# EAGLE library part ATMEGA168PB-AUR (library ATMEGA168PB-AUR)
Avr, 16kb Flash, 512b Ee, 1kb Sram - 20 Mhz, TQFP, Ind Temp Green t&r/ Tqfp (a)
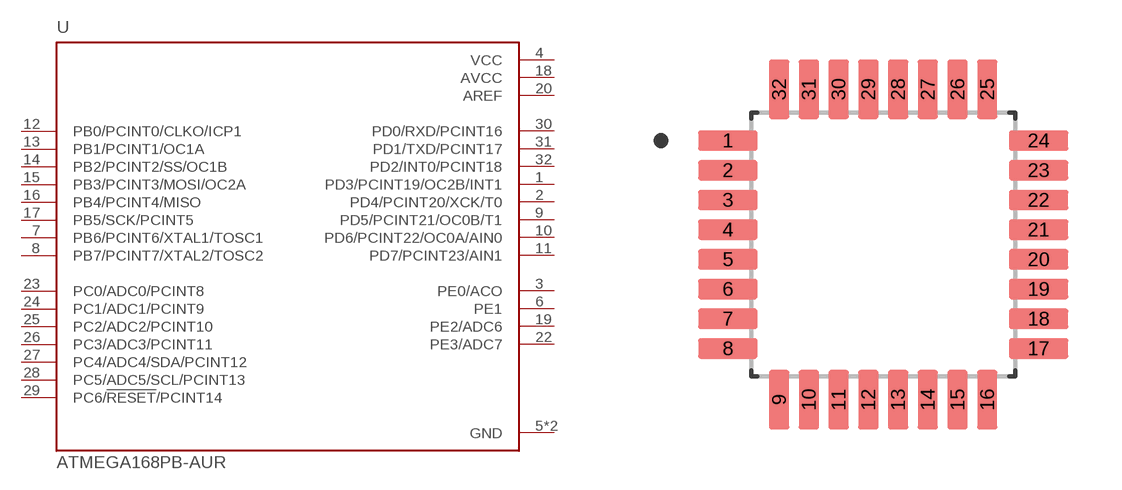
[diagram p0: symbol with the pads of QFP80P900X900X120-32N; footprint QFP80P900X900X120-32N]

Designator prefix U

## ATMEGA168PB-AUR (Availability: Unavailable; Description: Avr, 16kb Flash, 512b Ee, 1kb Sram - 20 Mhz, Tqfp, Ind Temp Green t&r/ Tqfp _a_; MF: Microchip; MP: ATMEGA168PB-AUR; Package: TQFP-32 Microchip; Price: None)  [QFP80P900X900X120-32N]
1  PD3/PCINT19/OC2B/INT1
2  PD4/PCINT20/XCK/T0
3  PE0/ACO
4  VCC  pwr
5  GND  pwr
6  PE1
7  PB6/PCINT6/XTAL1/TOSC1
8  PB7/PCINT7/XTAL2/TOSC2
9  PD5/PCINT21/OC0B/T1
10  PD6/PCINT22/OC0A/AIN0
11  PD7/PCINT23/AIN1
12  PB0/PCINT0/CLKO/ICP1
13  PB1/PCINT1/OC1A
14  PB2/PCINT2/SS/OC1B
15  PB3/PCINT3/MOSI/OC2A
16  PB4/PCINT4/MISO
17  PB5/SCK/PCINT5
18  AVCC  pwr
19  PE2/ADC6
20  AREF  out
21  GND  pwr
22  PE3/ADC7
23  PC0/ADC0/PCINT8
24  PC1/ADC1/PCINT9
25  PC2/ADC2/PCINT10
26  PC3/ADC3/PCINT11
27  PC4/ADC4/SDA/PCINT12
28  PC5/ADC5/SCL/PCINT13
29  PC6/!RESET!/PCINT14
30  PD0/RXD/PCINT16
31  PD1/TXD/PCINT17
32  PD2/INT0/PCINT18

## Footprint QFP80P900X900X120-32N (pad centres in mm)
smd 1.6 x 0.55: 1 -4.18,2.8; 2 -4.18,2; 3 -4.18,1.2; 4 -4.18,0.4; 5 -4.18,-0.4; 6 -4.18,-1.2; 7 -4.18,-2; 8 -4.18,-2.8; 17 4.18,-2.8; 18 4.18,-2; 19 4.18,-1.2; 20 4.18,-0.4; 21 4.18,0.4; 22 4.18,1.2; 23 4.18,2; 24 4.18,2.8
smd 0.55 x 1.6: 9 -2.8,-4.18; 10 -2,-4.18; 11 -1.2,-4.18; 12 -0.4,-4.18; 13 0.4,-4.18; 14 1.2,-4.18; 15 2,-4.18; 16 2.8,-4.18; 25 2.8,4.18; 26 2,4.18; 27 1.2,4.18; 28 0.4,4.18; 29 -0.4,4.18; 30 -1.2,4.18; 31 -2,4.18; 32 -2.8,4.18